# EAGLE library part TLW-107-06-G-S (library SAMTEC-Txx_By_element14_Batch_1)
CONNECTOR HEADER, 7 WAY, 1ROW
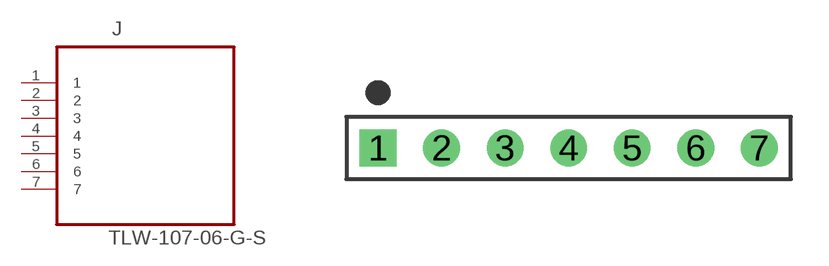
[diagram p153: symbol with the pads of SAMTEC_TLW-107-06-G-S; footprint SAMTEC_TLW-107-06-G-S]

Designator prefix J

## TLW-107-06-G-S (MPN: TLW-107-06-G-S; OC_FARNELL: -; OC_NEWARK: 12P0417; PACKAGE: CONN HEADER 7 POS .100 inch; SUPPLIER: SAMTEC)  [SAMTEC_TLW-107-06-G-S]
1  1  pas
2  2  pas
3  3  pas
4  4  pas
5  5  pas
6  6  pas
7  7  pas

## Footprint SAMTEC_TLW-107-06-G-S (pad centres in mm)
drill 0.965 square: 1 -15.24,0
drill 0.965: 2 -12.7,0; 3 -10.16,0; 4 -7.62,0; 5 -5.08,0; 6 -2.54,0; 7 0,0